# Altium footprint library Capacitors_TH.PcbLib: 79 footprints (part 2 of 5)
Each footprint in its own frame and in the unit in brackets; x right, y up, seen from the top. Pads: shape width x height; smd on the part's side, far side on the other; paste and mask are expansions set on the pad; w line width, h text height; cw(c..) or ccw(c..) is an arc to the next point about the centre after c.
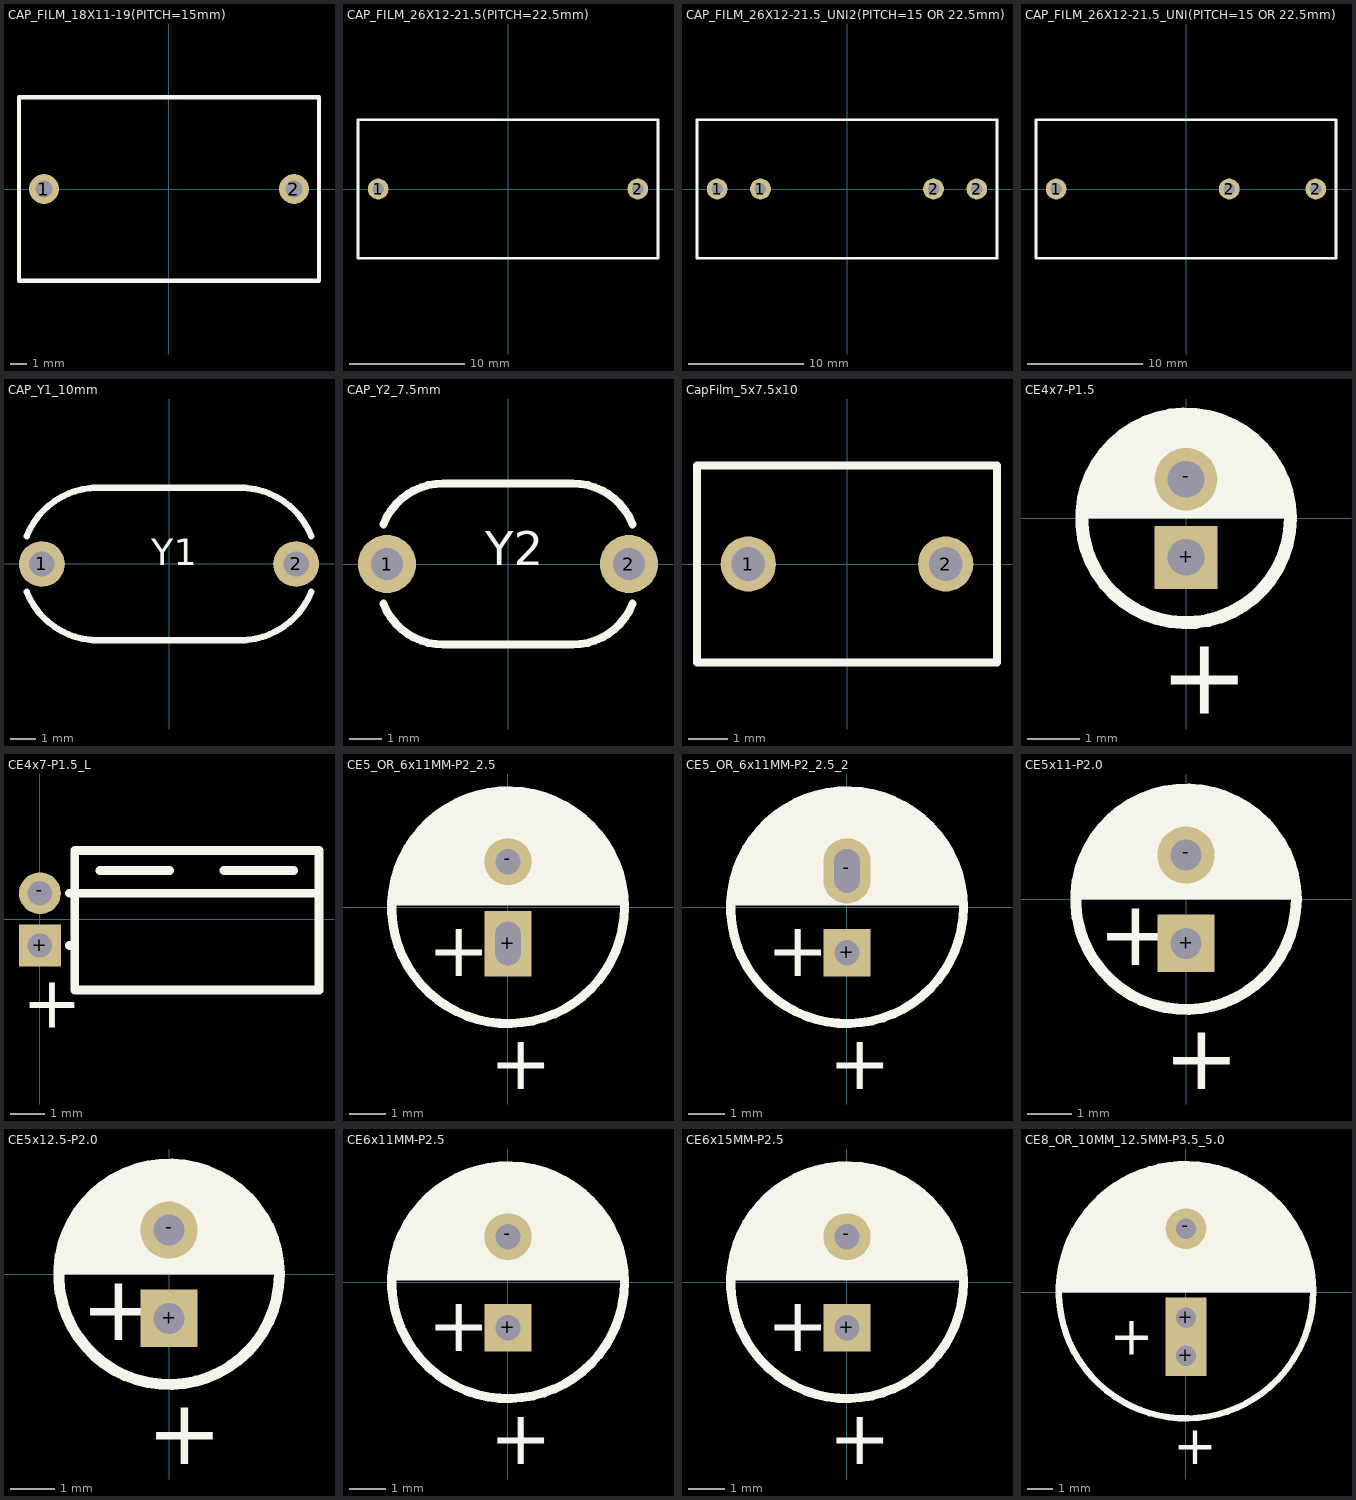
[diagram p1: the footprints below, top view; thin cyan lines are the x and y axes]

## CAP_FILM_18X11-19(PITCH=15mm) [mm]
height 19
pads (2):
  round 1.8 hole 1: 1(-7.5,0) 2(7.5,0)
Top Overlay:
  lines w0.254: -9,-5.5 -9,5.5 9,5.5 9,-5.5 -9,-5.5
3D body: height 0, standoff -2.5, extent 7.103,-0.403 7.9,0.396
3D body: height 0, standoff -2.5, extent -7.897,-0.403 -7.1,0.396
3D body: height 19, standoff 0, extent -9,-5.5 9,5.5

## CAP_FILM_26X12-21.5(PITCH=22.5mm) [mm]
pads (2):
  round 1.8 hole 1: 1(-11.25,0) 2(11.25,0)
Top Overlay:
  lines w0.254: -13,-6 -13,6 13,6 13,-6 -13,-6
3D body: height 21.5, standoff 0, extent -13,-6 13,6
3D body: height 0, standoff -2.5, extent 10.853,-0.399 11.65,0.399
3D body: height 0, standoff -2.5, extent -11.647,-0.403 -10.85,0.396

## CAP_FILM_26X12-21.5_UNI2(PITCH=15 OR 22.5mm) [mm]
pads (4):
  round 1.8 hole 1: 1(-11.25,0) 1(-7.5,0) 2(7.5,0) 2(11.25,0)
Top Overlay:
  lines w0.254: -13,-6 13,-6 13,6 -13,6 -13,-6
3D body: height 0, standoff -2.5, extent -11.647,-0.403 -10.85,0.396
3D body: height 0, standoff -2.5, extent 10.853,-0.399 11.65,0.399
3D body: height 21.5, standoff 0, extent -13,-6 13,6

## CAP_FILM_26X12-21.5_UNI(PITCH=15 OR 22.5mm) [mm]
pads (3):
  round 1.8 hole 1: 1(-11.25,0) 2(3.75,0) 2(11.25,0)
Top Overlay:
  lines w0.254: -13,-6 -13,6 13,6 13,-6 -13,-6
3D body: height 21.5, standoff 0, extent -13,-6 13,6
3D body: height 0, standoff -2.5, extent 10.853,-0.399 11.65,0.399
3D body: height 0, standoff -2.5, extent -11.647,-0.403 -10.85,0.396

## CAP_Y1_10mm [mm]
pads (2):
  round 1.8 hole 1: 1(-5,0) 2(5,0)
Top Overlay:
  lines w0.25: -5.593,-1.097 ccw(c-2.8,0) -2.8,-3 ; -5.593,1.097 cw(c-2.8,0) -2.8,3 ; -3,-3 3,-3 ; -3,3 3,3 ; 2.8,-3 ccw(c2.8,0) 5.592,-1.097 ; 2.8,3 cw(c2.8,0) 5.592,1.097
  text "Y1" at -0.7,-0.4 h1.8
3D body "Y1_8x5_10mm_1.STEP": height 8.49, standoff -3, extent -5.409,-2.973 5.409,2.974

## CAP_Y2_7.5mm [mm] "Y2 Safety Capacitor"
height 8
pads (2):
  round 1.8 hole 1: 1(-3.75,0) 2(3.75,0)
Top Overlay:
  lines w0.25: -3.862,-1.231 ccw(c-2,-0.5) -2,-2.5 2,-2.5 ccw(c2,-0.5) 3.862,-1.231 ; -3.862,1.231 cw(c-2,0.5) -2,2.5 2,2.5 cw(c2,0.5) 3.862,1.231
  text "Y2" at -0.7,-0.4 h1.8
3D body "Y2_7x4.5_7.5mm_1.STEP": height 7.5, standoff -3, extent -4.215,-2.663 4.215,2.663

## CapFilm_5x7.5x10 [mm] "Thru-Hole; 2 Leads; 5mm Pin Spacing"
height 10
pads (2):
  round 1.4 hole 0.85: 1(-2.5,0) 2(2.5,0)
Top Overlay:
  lines w0.2: -3.8,-2.5 -3.8,2.5 3.8,2.5 3.8,-2.5 -3.8,-2.5
3D body "CapFilm_5x7.5x10.STEP": height 10.1, standoff -1.9, extent -3.71,-2.5 3.79,2.5

## CE4x7-P1.5 [mm] "Radial aluminium capacitor"
height 7
pads (2):
  rect 1.2x1.2 hole 0.7: +(0,-0.75)
  round 1.2 hole 0.7: -(0,0.75)
Top Overlay:
  circle w0.25: c0,0 r2
  region: -2,0 2,0 2,0.197 1.923,0.583 1.772,0.947 1.554,1.275 1.275,1.553 0.947,1.772 0.583,1.923 0.197,2 -0.197,2 -0.583,1.923 -0.947,1.772 -1.275,1.553 -1.553,1.275 -1.772,0.947 -1.923,0.583 -2,0.197
  text "+" at -0.5,-3.75 h1.5
3D body "Cap_alu_4x7mm.STEP": height 7, standoff -2.5, extent -2,-2 2,2

## CE4x7-P1.5_L [mm] "Radial aluminium capacitor"
height 4.2
pads (2):
  rect 1.2x1.2 hole 0.7: +(0,-0.75)
  round 1.2 hole 0.7: -(0,0.75)
Top Overlay:
  lines w0.25: 0.85,-0.75 1,-0.75 ; 0.85,0.75 1,0.75 ; 1,0.75 8,0.75 ; 1.725,1.4 3.725,1.4 ; 5.275,1.4 7.275,1.4 ; 1,-2.025 1,1.975 8,1.975 8,-2.025 1,-2.025
  text "+" at -0.5,-3.1 h1.5
3D body "4x7_Alu_L.STEP": height 4.1, standoff -2.9, extent -0.25,-2.025 8,1.975

## CE5_OR_6x11MM-P2_2.5 [mm] "Radial aluminium capacitor"
height 11
pads (2):
  rect 1.3x1.8 hole 0.7 slot 1.2 at 90 deg: +(0,-1)
  round 1.3 hole 0.7: -(0,1.25)
Top Overlay:
  circle w0.25: c0,0 r3.2
  region: -3.2,0.05 -3.2,0.302 -3.121,0.799 -2.966,1.278 -2.737,1.727 -2.441,2.135 -2.085,2.491 -1.677,2.787 -1.228,3.016 -0.749,3.171 -0.252,3.25 0.252,3.25 0.749,3.171 1.228,3.016 1.677,2.787 2.085,2.491 2.441,2.135 2.737,1.727 2.966,1.278 3.121,0.799 3.2,0.302 3.2,0.05
  text "+" at -2.2,-1.9 h1.5
  text "+" at -0.5,-5 h1.5
3D body "Aluminum_electrolytic_capacitor_radial_D6.3_H11_PinD0.5_Pitch2.5_nominal_blue.step": height 11, standoff -3, extent -3.147,-3.144 3.147,3.144

## CE5_OR_6x11MM-P2_2.5_2 [mm] "Radial aluminium capacitor"
height 11
pads (2):
  rect 1.3x1.3 hole 0.7: +(0,-1.25)
  oval 1.3x1.8 hole 0.7 slot 1.2 at 90 deg: -(0,1)
Top Overlay:
  circle w0.25: c0,0 r3.2
  region: -3.2,0.05 -3.2,0.302 -3.121,0.799 -2.966,1.278 -2.737,1.727 -2.441,2.135 -2.085,2.491 -1.677,2.787 -1.228,3.016 -0.749,3.171 -0.252,3.25 0.252,3.25 0.749,3.171 1.228,3.016 1.677,2.787 2.085,2.491 2.441,2.135 2.737,1.727 2.966,1.278 3.121,0.799 3.2,0.302 3.2,0.05
  text "+" at -2.2,-1.9 h1.5
  text "+" at -0.5,-5 h1.5
3D body "Aluminum_electrolytic_capacitor_radial_D6.3_H11_PinD0.5_Pitch2.5_nominal_blue.step": height 11, standoff -3, extent -3.147,-3.144 3.147,3.144

## CE5x11-P2.0 [mm] "Radial aluminium capacitor"
height 11
pads (2):
  rect 1.3x1.3 hole 0.7: +(0,-1)
  round 1.3 hole 0.7: -(0,1)
Top Overlay:
  circle w0.25: c0,0 r2.5
  region: -2.5,0 2.5,0 2.5,0.246 2.404,0.729 2.215,1.184 1.942,1.594 1.594,1.942 1.184,2.215 0.729,2.404 0.246,2.5 -0.246,2.5 -0.729,2.404 -1.184,2.215 -1.594,1.942 -1.942,1.594 -2.215,1.184 -2.404,0.729 -2.5,0.246
  text "+" at -2,-1.5 h1.5
  text "+" at -0.5,-4.3 h1.5
3D body "cpol-v_p2_d5-25_h11.stp": height 11.01, standoff -3.35, extent -2.625,-2.625 2.625,2.631

## CE5x12.5-P2.0 [mm] "Radial aluminium capacitor"
height 12.5
pads (2):
  rect 1.3x1.3 hole 0.7: +(0,-1)
  round 1.3 hole 0.7: -(0,1)
Top Overlay:
  circle w0.25: c0,0 r2.5
  region: -2.5,0 2.5,0 2.5,0.246 2.404,0.729 2.215,1.184 1.942,1.594 1.594,1.942 1.184,2.215 0.729,2.404 0.246,2.5 -0.246,2.5 -0.729,2.404 -1.184,2.215 -1.594,1.942 -1.942,1.594 -2.215,1.184 -2.404,0.729 -2.5,0.246
  text "+" at -0.5,-4.3 h1.5
  text "+" at -2,-1.5 h1.5
3D body "cpol-v_p2_d5-25_h11.stp": height 12.51, standoff -1.85, extent -2.625,-2.625 2.625,2.631
3D body: height 5, standoff 0, extent -2.6,-2.6 2.6,2.6

## CE6x11MM-P2.5 [mm] "Radial aluminium capacitor"
height 11
pads (2):
  rect 1.3x1.3 hole 0.7: +(0,-1.25)
  round 1.3 hole 0.7: -(0,1.25)
Top Overlay:
  circle w0.25: c0,0 r3.2
  region: -3.2,0.05 -3.2,0.302 -3.121,0.799 -2.966,1.278 -2.737,1.727 -2.441,2.135 -2.085,2.491 -1.677,2.787 -1.228,3.016 -0.749,3.171 -0.252,3.25 0.252,3.25 0.749,3.171 1.228,3.016 1.677,2.787 2.085,2.491 2.441,2.135 2.737,1.727 2.966,1.278 3.121,0.799 3.2,0.302 3.2,0.05
  text "+" at -0.5,-5 h1.5
  text "+" at -2.2,-1.9 h1.5
3D body "Aluminum_electrolytic_capacitor_radial_D6.3_H11_PinD0.5_Pitch2.5_nominal_blue.step": height 11, standoff -3, extent -3.147,-3.144 3.147,3.144

## CE6x15MM-P2.5 [mm] "Radial aluminium capacitor"
height 15
pads (2):
  rect 1.3x1.3 hole 0.7: +(0,-1.25)
  round 1.3 hole 0.7: -(0,1.25)
Top Overlay:
  circle w0.25: c0,0 r3.2
  region: -3.2,0.05 -3.2,0.302 -3.121,0.799 -2.966,1.278 -2.737,1.727 -2.441,2.135 -2.085,2.491 -1.677,2.787 -1.228,3.016 -0.749,3.171 -0.252,3.25 0.252,3.25 0.749,3.171 1.228,3.016 1.677,2.787 2.085,2.491 2.441,2.135 2.737,1.727 2.966,1.278 3.121,0.799 3.2,0.302 3.2,0.05
  text "+" at -0.5,-5 h1.5
  text "+" at -2.2,-1.9 h1.5
3D body "Aluminum_electrolytic_capacitor_radial_D6.3_H15_PinD0.5_Pitch2.5_nominal_brown.step": height 15, standoff -3, extent -3.147,-3.144 3.147,3.144

## CE8_OR_10MM_12.5MM-P3.5_5.0 [mm] "Radial aluminium capacitor"
height 12
pads (3):
  rect 1.6x1.6 hole 0.8: +(0,-2.5) +(0,-1)
  round 1.6 hole 0.8: -(0,2.5)
Top Overlay:
  circle w0.25: c0,0.04 r5
  region: -4.999,0 4.999,0 5,-0.001 5,0.327 4.915,0.976 4.745,1.609 4.494,2.215 4.167,2.783 3.768,3.303 3.304,3.766 2.784,4.165 2.217,4.493 1.611,4.744 0.978,4.913 0.329,4.999 -0.327,4.999 -0.977,4.914 -1.61,4.744 -2.215,4.493 -2.783,4.166 -3.303,3.767 -3.766,3.303 -4.165,2.784 -4.493,2.216 -4.744,1.611 -4.914,0.977 -4.999,0.328
  text "+" at -0.5,-6.75 h1.5
  text "+" at -3,-2.45 h1.5
3D body "Aluminum_electrolytic_capacitor_radial_D10_H12.5_PinD0.6_Pitch5_nominal_orange.step": height 12.5, standoff -3, extent -5,-5 5,5